# EAGLE library part 629105150921 (library InputOutputIO (rev18a))
WR-COM_USB_Micro Type AB_Horizontal_SMT ; Micro Type AB Horizontal SMT - with Pegs - T&R Packaging Code : Con_I-O_COM_USB_2.0_AB_629105150921_629105150921 <http://katalog.we-online.de/media/images/eican/Con_I-O_COM_USB_2.0_AB_629105150921_pf2.jpg> Details see: http://katalog.we-online.de/em/datasheet/629105150921.pdf Created 12/08/2014, Dan Xu 2014 (C) Wurth Elektronik
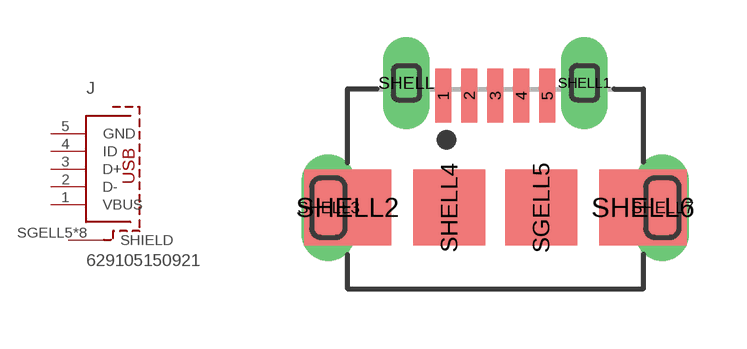
[diagram p148: symbol with the pads of 629105150921; footprint 629105150921]

Designator prefix J

## 629105150921  [629105150921]
1  VBUS  pas
2  D-  pas
3  D+  pas
4  ID  pas
5  GND  pas
SGELL5  SHIELD  pas
SHELL  SHIELD  pas
SHELL1  SHIELD  pas
SHELL2  SHIELD  pas
SHELL3  SHIELD  pas
SHELL4  SHIELD  pas
SHELL6  SHIELD  pas
SHELL7  SHIELD  pas

## Footprint 629105150921 (pad centres in mm)
629105150921 WR-COM_USB_Micro Type AB_Horizontal_SMT Micro Type AB Horizontal SMT - with Pegs - T&R Packaging
smd 0.4 x 1.35: 1 -1.3,2.805; 2 -0.65,2.805; 3 0,2.805; 4 0.65,2.805; 5 1.3,2.805
smd 1.8 x 1.9: SGELL5 1.15,0; SHELL4 -1.15,0
drill 0.65 pad 1 long: SHELL -2.225,3.12; SHELL1 2.225,3.12
smd 2.185 x 1.9: SHELL2 -3.692,0; SHELL6 3.692,0
drill 0.825 pad 1.05 long: SHELL3 -4.175,0; SHELL7 4.175,0